# Altium integrated library Transformers.IntLib: 2 symbols
Pins are listed as number, name and electrical type; pins without a type are passive.

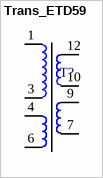
[diagram p0: symbol Trans_ETD59]

## Trans_ETD59
designator T?, comment ETD29  (value not drawn)
footprint TRANS_ETD_29
footprint ETD29_Transformer
pins: 1, 3, 4, 6, 7, 9, 10, 12


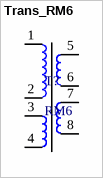
[diagram p1: symbol Trans_RM6]

## Trans_RM6
designator T?, comment RM6
footprint TRANS_RM6
pins: 1, 2, 3, 4, 5, 6, 7, 8